# Altium integrated library PZ-VL53L0X激光测距模块.IntLib: 5 symbols
Pins are listed as number, name and electrical type; pins without a type are passive.

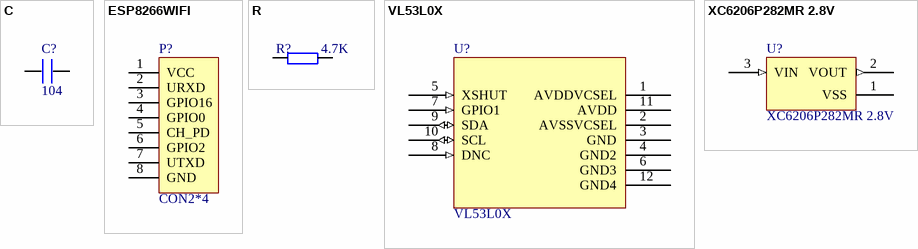
[diagram p0: symbols C to XC6206P282MR 2.8V]

## C
designator C?, comment 104
footprint 0603P
footprint 0805
footprint CC5.08 (CAP0.1)
footprint CC4.572 (222/332)
footprint 1206
footprint 1210
footprint CC6.096
footprint CC7.62
footprint CVAR (4MM*6.6MM)
footprint 0805P
footprint C0805
pins: 1, 2

## ESP8266WIFI
designator P?, comment CON2*4
footprint HDR2X4 (Connector; Header; 4x2 Position)
footprint HDR2X4
pins: 1 VCC, 2 URXD, 3 GPIO16, 4 GPIO0, 5 CH_PD, 6 GPIO2, 7 UTXD, 8 GND

## R
designator R?, comment 4.7K
footprint 0805
footprint 0603P
footprint RL (10o/0.7uH)
footprint R16.0 (RX/1W)
footprint 1206
footprint 1210
footprint R20.0 (RX/2W)
footprint R10.16 (STD)
footprint RLN9 (13.5mm*5.1mm)
pins: 1, 2

## VL53L0X
designator U?
激光传感器
footprint VL53L0X
pins: 1 AVDDVCSEL (power), 2 AVSSVCSEL (power), 3 GND (power), 4 GND2 (power), 5 XSHUT (in), 6 GND3 (power), 7 GPIO1 (in), 8 DNC (in), 9 SDA (io), 10 SCL (io), 11 AVDD (power), 12 GND4 (power)

## XC6206P282MR 2.8V
designator U?
2.8V  LDO稳压芯片
footprint SOT-23 (SOT-23（TO-236AB）)
pins: 1 VSS, 2 VOUT (out), 3 VIN (in)